# EAGLE library part ZX62 (library taki-library)
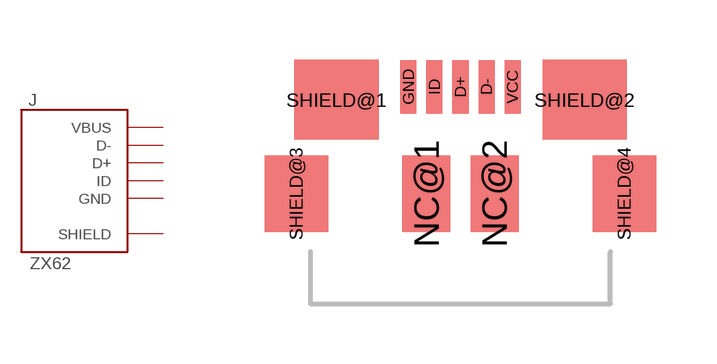
[diagram p5: symbol with the pads of ZX62R-B-5PA; footprint ZX62R-B-5PA]

Designator prefix J

## ZX62R-AB-5P  [ZX62R-B-5PA]
D+  D+
D-  D-
GND  GND
ID  ID
SHIELD@1  SHIELD
SHIELD@2  SHIELD
SHIELD@3  SHIELD
SHIELD@4  SHIELD
VCC  VBUS

## Footprint ZX62R-B-5PA (pad centres in mm)
smd 0.4 x 1.35: D+ 0,2.675; D- 0.65,2.675; GND -1.3,2.675; ID -0.65,2.675; VCC 1.3,2.675
smd 1.2 x 1.9: NC@1 -0.85,0; NC@2 0.85,0
smd 2.1 x 2: SHIELD@1 -3.1,2.35; SHIELD@2 3.1,2.35
smd 1.6 x 1.9: SHIELD@3 -4.1,0; SHIELD@4 4.1,0